# EAGLE library part 4UCON-04950 (library exoteric-analytics-custom)
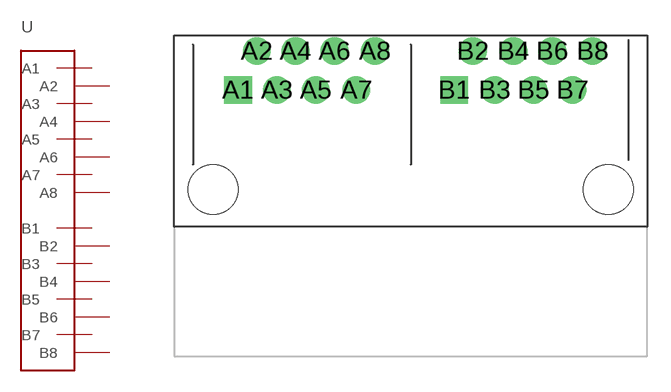
[diagram p0: symbol with the pads of 4UCON-04950; footprint 4UCON-04950]

Designator prefix -

## 4UCON-04950  [4UCON-04950]
A1  A1
A2  A2
A3  A3
A4  A4
A5  A5
A6  A6
A7  A7
A8  A8
B1  B1
B2  B2
B3  B3
B4  B4
B5  B5
B6  B6
B7  B7
B8  B8

## Footprint 4UCON-04950 (pad centres in mm)
drill 1.1 pad 1.778 square: A1 -11.1,6.8; B1 2.8,6.8
drill 1.1 pad 1.778: A2 -9.9,9.3; A3 -8.6,6.8; A4 -7.4,9.3; A5 -6.1,6.8; A6 -4.9,9.3; A7 -3.5,6.8; A8 -2.3,9.3; B2 4,9.3; B3 5.4,6.8; B4 6.6,9.3; B5 7.9,6.8; B6 9.1,9.3; B7 10.4,6.8; B8 11.7,9.3
hole 3.2 at -12.7,0.4
hole 3.2 at 12.7,0.4